# EAGLE library part WS2803 (library debauer_ics)
WS2803 18 Channel Constant Current LED Driver with programmable PWM outputs.
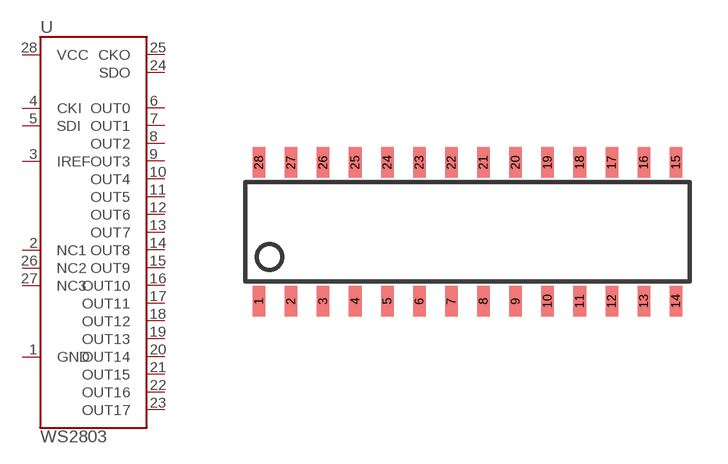
[diagram p33: symbol with the pads of SOP-28; footprint SOP-28]

Designator prefix U

## WS2803  [SOP-28]
1  GND
2  NC1
3  IREF
4  CKI
5  SDI
6  OUT0
7  OUT1
8  OUT2
9  OUT3
10  OUT4
11  OUT5
12  OUT6
13  OUT7
14  OUT8
15  OUT9
16  OUT10
17  OUT11
18  OUT12
19  OUT13
20  OUT14
21  OUT15
22  OUT16
23  OUT17
24  SDO
25  CKO
26  NC2
27  NC3
28  VCC

## Footprint SOP-28 (pad centres in mm)
smd 0.5 x 1.2: 1 -7.62,-2.75; 2 -6.35,-2.75; 3 -5.08,-2.75; 4 -3.81,-2.75; 5 -2.54,-2.75; 6 -1.27,-2.75; 7 0,-2.75; 8 1.27,-2.75; 9 2.54,-2.75; 10 3.81,-2.75; 11 5.08,-2.75; 12 6.35,-2.75; 13 7.62,-2.75; 14 8.89,-2.75; 15 8.89,2.75; 16 7.62,2.75; 17 6.35,2.75; 18 5.08,2.75; 19 3.81,2.75; 20 2.54,2.75; 21 1.27,2.75; 22 0,2.75; 23 -1.27,2.75; 24 -2.54,2.75; 25 -3.81,2.75; 26 -5.08,2.75; 27 -6.35,2.75; 28 -7.62,2.75